# Altium footprint library Hub-UV17.PcbLib: 23 footprints (part 2 of 2)
Each footprint in its own frame and in the unit in brackets; x right, y up, seen from the top. Pads: shape width x height; smd on the part's side, far side on the other; paste and mask are expansions set on the pad; w line width, h text height; cw(c..) or ccw(c..) is an arc to the next point about the centre after c.
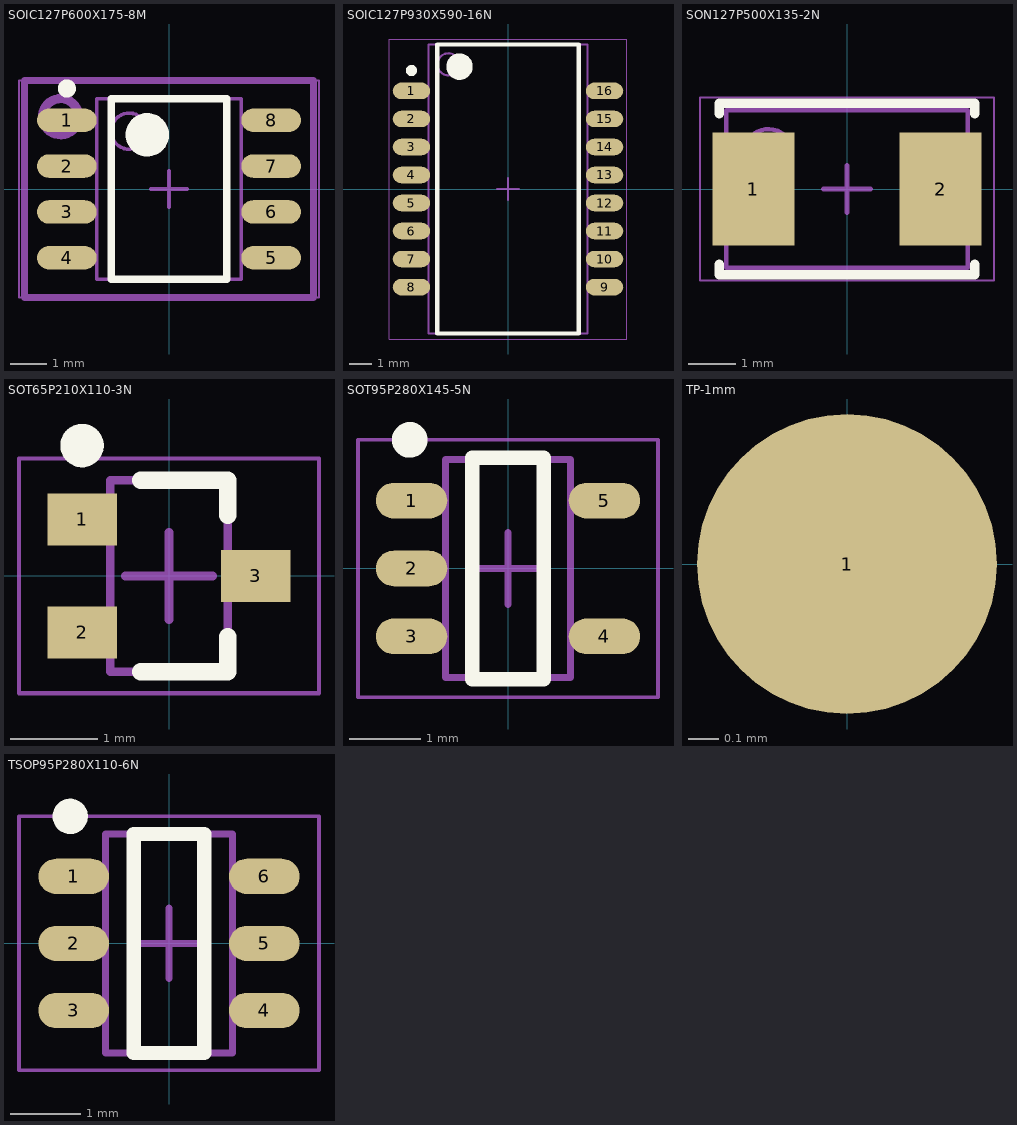
[diagram p1: the footprints below, top view; thin cyan lines are the x and y axes]

## SOIC127P600X175-8M [mm] "SOIC, 8-Leads, Body 4.90x3.90mm, Pitch 1.27mm, IPC Low Density"
height 1.75
pads (8):
  oval 1.65x0.65 smd: 1(-2.825,1.905) 2(-2.825,0.635) 3(-2.825,-0.635) 4(-2.825,-1.905) 5(2.825,-1.905) 6(2.825,-0.635) 7(2.825,0.635) 8(2.825,1.905)
Top Overlay:
  circle w0.25: c-2.825,2.78 r0.125
  circle w0.6: c-0.6,1.5 r0.3
  lines w0.2: -1.6,-2.5 -1.6,2.5 1.6,2.5 1.6,-2.5 -1.6,-2.5
Mechanical 13:
  circle w0.1: c-1.1,1.6 r0.5
  lines w0.1: -2,-2.5 -2,2.5 2,2.5 2,-2.5 -2,-2.5
Mechanical 15:
  lines w0.05: -4.15,-3 -4.15,3 4.15,3 4.15,-3 -4.15,-3
  lines w0.1: -0.5,0 0.5,0 ; 0,-0.5 0,0.5
Mechanical 29:
  circle w0.254: c-3,2 r0.5
  lines w0.2: -4,-3 4,-3 4,3 -4,3 -4,-3
  text ".Designator" at -2.3,-0.9 h1.52
3D body "SOIC127P600X175-8M.step": height 1.75, standoff 0, extent -3,-2.5 3,2.5

## SOIC127P930X590-16N [mm] "SOIC, 16-Leads, Body 12.80x6.90mm, Pitch 1.27mm, IPC Medium Density"
height 5.9
pads (16):
  oval 1.7x0.75 smd: 1(-4.375,4.445) 2(-4.375,3.175) 3(-4.375,1.905) 4(-4.375,0.635) 5(-4.375,-0.635) 6(-4.375,-1.905) 7(-4.375,-3.175) 8(-4.375,-4.445) 9(4.375,-4.445) 10(4.375,-3.175) 11(4.375,-1.905) 12(4.375,-0.635) 13(4.375,0.635) 14(4.375,1.905) 15(4.375,3.175) 16(4.375,4.445)
Top Overlay:
  circle w0.25: c-4.375,5.37 r0.125
  circle w0.6: c-2.2,5.55 r0.3
  lines w0.2: -3.2,-6.55 -3.2,6.55 3.2,6.55 3.2,-6.55 -3.2,-6.55
Mechanical 13:
  circle w0.1: c-2.7,5.65 r0.5
  lines w0.1: -3.6,-6.55 -3.6,6.55 3.6,6.55 3.6,-6.55 -3.6,-6.55
Mechanical 15:
  lines w0.05: -5.375,-6.8 -5.375,6.8 5.375,6.8 5.375,-6.8 -5.375,-6.8
  lines w0.1: -0.5,0 0.5,0 ; 0,-0.5 0,0.5
3D body "SOIC127P930X590-16N.step": height 5.9, standoff 0, extent -4.65,-6.55 4.65,6.55

## SON127P500X135-2N [mm] "SON, 2-Leads, Body 3.20x5.00mm, Pitch 1.27mm, IPC Medium Density"
height 1.35
pads (2):
  rect 1.75x2.4 smd: 1(-1.995,0) 2(1.995,0)
Top Overlay:
  lines w0.2: -2.725,-1.6 -2.725,-1.825 2.725,-1.825 2.725,-1.6 ; -2.725,1.6 -2.725,1.825 2.725,1.825 2.725,1.6
Mechanical 13:
  circle w0.1: c-1.675,0.775 r0.5
  lines w0.1: -2.575,-1.675 -2.575,1.675 2.575,1.675 2.575,-1.675 -2.575,-1.675
Mechanical 15:
  lines w0.05: -3.13,-1.95 -3.13,1.95 3.13,1.95 3.13,-1.95 -3.13,-1.95
  lines w0.1: -0.5,0 0.5,0 ; 0,-0.5 0,0.5
3D body "SON127P500X135-2N.step": height 1.35, standoff 0.1, extent -2.575,-1.675 2.575,1.675

## SOT65P210X110-3N [mm] "SOT23, 3-Leads, Body 2.00x2.10mm, Pitch 0.65mm, IPC Medium Density"
height 1.1
pads (3):
  rect 0.8x0.6 smd: 1(-1,0.65) 2(-1,-0.65) 3(1,0)
Top Overlay:
  circle w0.25: c-1,1.5 r0.125
  lines w0.2: -0.325,-1.1 0.675,-1.1 0.675,-0.7 ; -0.325,1.1 0.675,1.1 0.675,0.7
Mechanical 13:
  lines w0.1: -0.675,-1.1 -0.675,1.1 0.675,1.1 0.675,-1.1 -0.675,-1.1
Mechanical 15:
  lines w0.05: -1.725,-1.35 -1.725,1.35 1.725,1.35 1.725,-1.35 -1.725,-1.35
  lines w0.1: -0.5,0 0.5,0 ; 0,-0.5 0,0.5
3D body "SOT65P210X110-3N.step": height 1.1, standoff 0, extent -1.15,-1.1 1.15,1.1

## SOT95P280X145-5N [mm] "SOT23, 5-Leads, Body 2.90x2.80mm, Pitch 0.95mm, IPC Medium Density"
height 1.45
pads (5):
  rrect100% 1x0.5 smd: 1(-1.35,0.95) 2(-1.35,0) 3(-1.35,-0.95) 4(1.35,-0.95) 5(1.35,0.95)
Top Overlay:
  circle w0.25: c-1.375,1.8 r0.125
  lines w0.2: -0.5,-1.55 -0.5,1.55 0.5,1.55 0.5,-1.55 -0.5,-1.55
Mechanical 13:
  lines w0.1: -0.875,-1.525 0.875,-1.525 0.875,1.525 -0.875,1.525 -0.875,-1.525
Mechanical 15:
  lines w0.05: -2.1,-1.8 2.1,-1.8 2.1,1.8 -2.1,1.8 -2.1,-1.8
  lines w0.1: -0.5,0 0.5,0 ; 0,-0.5 0,0.5
3D body "SOT95P280X145-5N.step": height 1.45, standoff 0, extent -1.5,-1.525 1.5,1.525

## TP-1mm [mm]
pads (1):
  round 1 / inner round 1.524 / far side round 0 all layers, no hole: 1(0,0)

## TSOP95P280X110-6N [mm] "TSOP, 6-Leads, Body 2.90x1.60mm, Pitch 0.95mm, IPC Medium Density"
height 1.1
pads (6):
  oval 1x0.5 smd: 1(-1.35,0.95) 2(-1.35,0) 3(-1.35,-0.95) 4(1.35,-0.95) 5(1.35,0) 6(1.35,0.95)
Top Overlay:
  circle w0.25: c-1.4,1.8 r0.125
  lines w0.2: -0.5,-1.55 0.5,-1.55 0.5,1.55 -0.5,1.55 -0.5,-1.55
Mechanical 13:
  lines w0.1: -0.9,-1.55 0.9,-1.55 0.9,1.55 -0.9,1.55 -0.9,-1.55
Mechanical 15:
  lines w0.05: -2.125,-1.8 2.125,-1.8 2.125,1.8 -2.125,1.8 -2.125,-1.8
  lines w0.1: -0.5,0 0.5,0 ; 0,-0.5 0,0.5
3D body "TSOP95P280X110-6N.step": height 1.1, standoff 0.01, extent -1.393,-1.55 1.393,1.55